# Altium schematic symbol library OPA659IDBVT.SchLib: 1 symbol
Pins are listed as number, name and electrical type; pins without a type are passive.

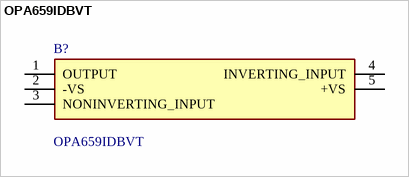
[diagram p0: symbol OPA659IDBVT]

## OPA659IDBVT
designator B?
Texas Instruments OPA659IDBVT JFET Op Amp, 350MHz, 5-Pin SOT-23; Geometry.Height: 1.45mm; Manufacturer_Name: Texas Instruments; Manufacturer_Part_Number: OPA659IDBVT; Mouser Part Number: 595-OPA659IDBVT; Mouser Price/Stock: https://www.mouser.co.uk/ProductDetail/Texas-Instruments/OPA659IDBVT?qs=IDSsxkoac0yQx%2FRcNbdWsA%3D%3D; Arrow Part Number: OPA659IDBVT; Arrow Price/Stock: https://www.arrow.com/en/products/opa659idbvt/texas-instruments?region=nac; Datasheet Link: http://www.ti.com/lit/gpn/opa659
footprint SOT95P280X145-5N
pins: 1 OUTPUT, 2 -VS, 3 NONINVERTING_INPUT, 4 INVERTING_INPUT, 5 +VS